# Altium schematic symbol library HEATSINK.SchLib: 1 symbol
Pins are listed as number, name and electrical type; pins without a type are passive.

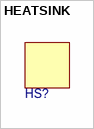
[diagram p0: symbol HEATSINK]

## HEATSINK
designator HS?  (mechanical)